# Altium integrated library IC - Power - DC - DC.IntLib: 1 symbol
Pins are listed as number, name and electrical type; pins without a type are passive.

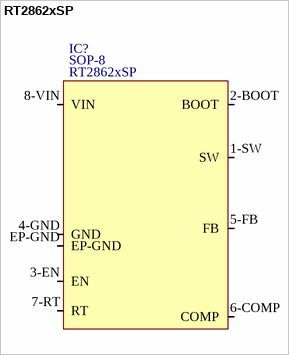
[diagram p0: symbol RT2862xSP]

## RT2862xSP
designator IC?  Manufacturer Part Number: RT2862xSP  Package: SOP-8
ComponentLink1Description: Datasheet; ComponentLink1URL: C:\Users\ADMIN\Desktop\Altium Projects\STM32F407 demo\Datasheets\IC - Interface; Temperature: -40°C - +80°C
footprint RT2862xSP,SOP-8
pins: 1-SW SW, 2-BOOT BOOT, 3-EN EN, 4-GND GND, 5-FB FB, 6-COMP COMP, 7-RT RT, 8-VIN VIN, EP-GND